# Altium footprint library Connector_JST.PcbLib: 558 footprints (part 15 of 35)
Each footprint in its own frame and in the unit in brackets; x right, y up, seen from the top. Pads: shape width x height; smd on the part's side, far side on the other; paste and mask are expansions set on the pad; w line width, h text height; cw(c..) or ccw(c..) is an arc to the next point about the centre after c.
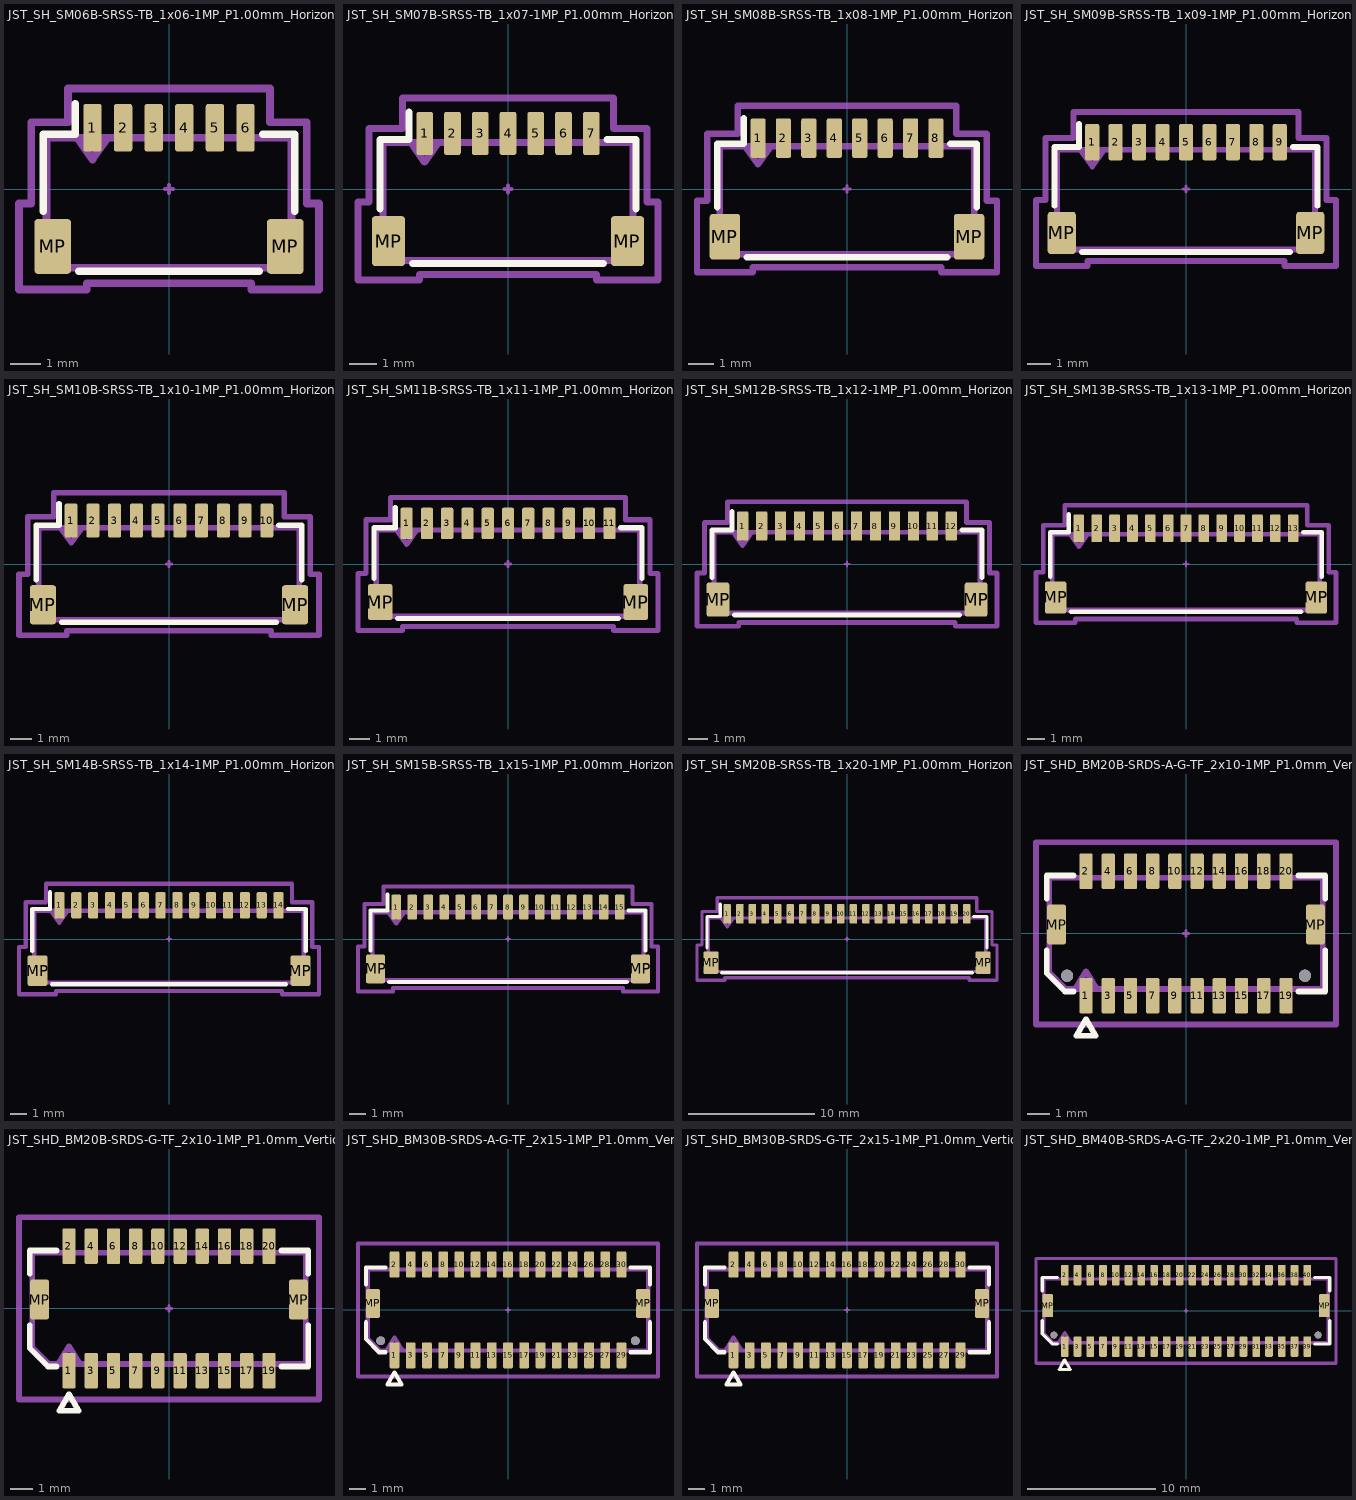
[diagram p14: the footprints below, top view; thin cyan lines are the x and y axes]

## JST_SH_SM06B-SRSS-TB_1x06-1MP_P1.00mm_Horizontal [mm] "JST_SH_SM06B-SRSS-TB_1x06-1MP_P1.00mm_Horizontal"
pads (8):
  rrect25% 0.6x1.55 smd: 1(-2.5,2) 2(-1.5,2) 3(-0.5,2) 4(0.5,2) 5(1.5,2) 6(2.5,2)
  rrect21% 1.2x1.8 smd: MP(-3.8,-1.875) MP(3.8,-1.875)
F.SilkS:
  lines w0.254: -4.11,-0.715 -4.11,1.785 -3.06,1.785 -3.06,2.775 ; -2.94,-2.685 2.94,-2.685 ; 3.06,1.785 4.11,1.785 4.11,-0.715
Top Component Center:
  lines w0.127: -0.127,0 0.127,0 ; 0,-0.127 0,0.127
Top Assembly:
  lines w0.254: -3,1.675 -2.5,0.968 -2,1.675 ; -4,-2.575 -4,1.675 4,1.675 4,-2.575 -4,-2.575
Top Courtyard:
  lines w0.254: -4.9,-3.28 -4.9,-0.47 -4.5,-0.47 -4.5,2.18 -3.3,2.18 -3.3,3.28 3.3,3.28 3.3,2.18 4.5,2.18 4.5,-0.47 4.9,-0.47 4.9,-3.28 2.69,-3.28 2.69,-3.08 -2.69,-3.08 -2.69,-3.28 -4.9,-3.28
Top Designator:
  text ".Designator" at -3.43,-0.344 h1.52

## JST_SH_SM07B-SRSS-TB_1x07-1MP_P1.00mm_Horizontal [mm] "JST_SH_SM07B-SRSS-TB_1x07-1MP_P1.00mm_Horizontal"
pads (9):
  rrect25% 0.6x1.55 smd: 1(-3,2) 2(-2,2) 3(-1,2) 4(0,2) 5(1,2) 6(2,2) 7(3,2)
  rrect21% 1.2x1.8 smd: MP(-4.3,-1.875) MP(4.3,-1.875)
F.SilkS:
  lines w0.254: -4.61,-0.715 -4.61,1.785 -3.56,1.785 -3.56,2.775 ; -3.44,-2.685 3.44,-2.685 ; 3.56,1.785 4.61,1.785 4.61,-0.715
Top Component Center:
  lines w0.127: -0.127,0 0.127,0 ; 0,-0.127 0,0.127
Top Assembly:
  lines w0.254: -3.5,1.675 -3,0.968 -2.5,1.675 ; -4.5,-2.575 4.5,-2.575 4.5,1.675 -4.5,1.675 -4.5,-2.575
Top Courtyard:
  lines w0.254: -5.4,-3.28 -3.19,-3.28 -3.19,-3.08 3.19,-3.08 3.19,-3.28 5.4,-3.28 5.4,-0.47 5,-0.47 5,2.18 3.8,2.18 3.8,3.28 -3.8,3.28 -3.8,2.18 -5,2.18 -5,-0.47 -5.4,-0.47 -5.4,-3.28
Top Designator:
  text ".Designator" at -3.43,-0.344 h1.52

## JST_SH_SM08B-SRSS-TB_1x08-1MP_P1.00mm_Horizontal [mm] "JST_SH_SM08B-SRSS-TB_1x08-1MP_P1.00mm_Horizontal"
pads (10):
  rrect25% 0.6x1.55 smd: 1(-3.5,2) 2(-2.5,2) 3(-1.5,2) 4(-0.5,2) 5(0.5,2) 6(1.5,2) 7(2.5,2) 8(3.5,2)
  rrect21% 1.2x1.8 smd: MP(-4.8,-1.875) MP(4.8,-1.875)
F.SilkS:
  lines w0.254: -5.11,-0.715 -5.11,1.785 -4.06,1.785 -4.06,2.775 ; -3.94,-2.685 3.94,-2.685 ; 4.06,1.785 5.11,1.785 5.11,-0.715
Top Component Center:
  lines w0.127: -0.127,0 0.127,0 ; 0,-0.127 0,0.127
Top Assembly:
  lines w0.254: -4,1.675 -3.5,0.968 -3,1.675 ; -5,-2.575 -5,1.675 5,1.675 5,-2.575 -5,-2.575
Top Courtyard:
  lines w0.254: -5.9,-3.28 -5.9,-0.47 -5.5,-0.47 -5.5,2.18 -4.3,2.18 -4.3,3.28 4.3,3.28 4.3,2.18 5.5,2.18 5.5,-0.47 5.9,-0.47 5.9,-3.28 3.7,-3.28 3.7,-3.08 -3.7,-3.08 -3.7,-3.28 -5.9,-3.28
Top Designator:
  text ".Designator" at -3.43,-0.344 h1.52

## JST_SH_SM09B-SRSS-TB_1x09-1MP_P1.00mm_Horizontal [mm] "JST_SH_SM09B-SRSS-TB_1x09-1MP_P1.00mm_Horizontal"
pads (11):
  rrect25% 0.6x1.55 smd: 1(-4,2) 2(-3,2) 3(-2,2) 4(-1,2) 5(0,2) 6(1,2) 7(2,2) 8(3,2) 9(4,2)
  rrect21% 1.2x1.8 smd: MP(-5.3,-1.875) MP(5.3,-1.875)
F.SilkS:
  lines w0.254: -5.61,-0.715 -5.61,1.785 -4.56,1.785 -4.56,2.775 ; -4.44,-2.685 4.44,-2.685 ; 4.56,1.785 5.61,1.785 5.61,-0.715
Top Component Center:
  lines w0.127: -0.127,0 0.127,0 ; 0,-0.127 0,0.127
Top Assembly:
  lines w0.254: -4.5,1.675 -4,0.968 -3.5,1.675 ; -5.5,-2.575 5.5,-2.575 5.5,1.675 -5.5,1.675 -5.5,-2.575
Top Courtyard:
  lines w0.254: -6.4,-3.28 -4.2,-3.28 -4.2,-3.08 4.2,-3.08 4.2,-3.28 6.4,-3.28 6.4,-0.47 6,-0.47 6,2.18 4.8,2.18 4.8,3.28 -4.8,3.28 -4.8,2.18 -6,2.18 -6,-0.47 -6.4,-0.47 -6.4,-3.28
Top Designator:
  text ".Designator" at -3.43,-0.344 h1.52

## JST_SH_SM10B-SRSS-TB_1x10-1MP_P1.00mm_Horizontal [mm] "JST_SH_SM10B-SRSS-TB_1x10-1MP_P1.00mm_Horizontal"
pads (12):
  rrect25% 0.6x1.55 smd: 1(-4.5,2) 2(-3.5,2) 3(-2.5,2) 4(-1.5,2) 5(-0.5,2) 6(0.5,2) 7(1.5,2) 8(2.5,2) 9(3.5,2) 10(4.5,2)
  rrect21% 1.2x1.8 smd: MP(-5.8,-1.875) MP(5.8,-1.875)
F.SilkS:
  lines w0.254: -6.11,-0.715 -6.11,1.785 -5.06,1.785 -5.06,2.775 ; -4.94,-2.685 4.94,-2.685 ; 5.06,1.785 6.11,1.785 6.11,-0.715
Top Component Center:
  lines w0.127: -0.127,0 0.127,0 ; 0,-0.127 0,0.127
Top Assembly:
  lines w0.254: -5,1.675 -4.5,0.968 -4,1.675 ; -6,-2.575 -6,1.675 6,1.675 6,-2.575 -6,-2.575
Top Courtyard:
  lines w0.254: -6.9,-3.28 -6.9,-0.47 -6.5,-0.47 -6.5,2.18 -5.3,2.18 -5.3,3.28 5.3,3.28 5.3,2.18 6.5,2.18 6.5,-0.47 6.9,-0.47 6.9,-3.28 4.7,-3.28 4.7,-3.08 -4.7,-3.08 -4.7,-3.28 -6.9,-3.28
Top Designator:
  text ".Designator" at -3.43,-0.344 h1.52

## JST_SH_SM11B-SRSS-TB_1x11-1MP_P1.00mm_Horizontal [mm] "JST_SH_SM11B-SRSS-TB_1x11-1MP_P1.00mm_Horizontal"
pads (13):
  rrect25% 0.6x1.55 smd: 1(-5,2) 2(-4,2) 3(-3,2) 4(-2,2) 5(-1,2) 6(0,2) 7(1,2) 8(2,2) 9(3,2) 10(4,2) 11(5,2)
  rrect21% 1.2x1.8 smd: MP(-6.3,-1.875) MP(6.3,-1.875)
F.SilkS:
  lines w0.254: -6.61,-0.715 -6.61,1.785 -5.56,1.785 -5.56,2.775 ; -5.44,-2.685 5.44,-2.685 ; 5.56,1.785 6.61,1.785 6.61,-0.715
Top Component Center:
  lines w0.127: -0.127,0 0.127,0 ; 0,-0.127 0,0.127
Top Assembly:
  lines w0.254: -5.5,1.675 -5,0.968 -4.5,1.675 ; -6.5,-2.575 6.5,-2.575 6.5,1.675 -6.5,1.675 -6.5,-2.575
Top Courtyard:
  lines w0.254: -7.4,-3.28 -5.2,-3.28 -5.2,-3.08 5.2,-3.08 5.2,-3.28 7.4,-3.28 7.4,-0.47 7,-0.47 7,2.18 5.8,2.18 5.8,3.28 -5.8,3.28 -5.8,2.18 -7,2.18 -7,-0.47 -7.4,-0.47 -7.4,-3.28
Top Designator:
  text ".Designator" at -3.43,-0.344 h1.52

## JST_SH_SM12B-SRSS-TB_1x12-1MP_P1.00mm_Horizontal [mm] "JST_SH_SM12B-SRSS-TB_1x12-1MP_P1.00mm_Horizontal"
pads (14):
  rrect25% 0.6x1.55 smd: 1(-5.5,2) 2(-4.5,2) 3(-3.5,2) 4(-2.5,2) 5(-1.5,2) 6(-0.5,2) 7(0.5,2) 8(1.5,2) 9(2.5,2) 10(3.5,2) 11(4.5,2) 12(5.5,2)
  rrect21% 1.2x1.8 smd: MP(-6.8,-1.875) MP(6.8,-1.875)
F.SilkS:
  lines w0.254: -7.11,-0.715 -7.11,1.785 -6.06,1.785 -6.06,2.775 ; -5.94,-2.685 5.94,-2.685 ; 6.06,1.785 7.11,1.785 7.11,-0.715
Top Component Center:
  lines w0.127: -0.127,0 0.127,0 ; 0,-0.127 0,0.127
Top Assembly:
  lines w0.254: -6,1.675 -5.5,0.968 -5,1.675 ; -7,-2.575 7,-2.575 7,1.675 -7,1.675 -7,-2.575
Top Courtyard:
  lines w0.254: -7.9,-3.28 -5.7,-3.28 -5.7,-3.08 5.7,-3.08 5.7,-3.28 7.9,-3.28 7.9,-0.47 7.5,-0.47 7.5,2.18 6.3,2.18 6.3,3.28 -6.3,3.28 -6.3,2.18 -7.5,2.18 -7.5,-0.47 -7.9,-0.47 -7.9,-3.28
Top Designator:
  text ".Designator" at -3.43,-0.344 h1.52

## JST_SH_SM13B-SRSS-TB_1x13-1MP_P1.00mm_Horizontal [mm] "JST_SH_SM13B-SRSS-TB_1x13-1MP_P1.00mm_Horizontal"
pads (15):
  rrect25% 0.6x1.55 smd: 1(-6,2) 2(-5,2) 3(-4,2) 4(-3,2) 5(-2,2) 6(-1,2) 7(0,2) 8(1,2) 9(2,2) 10(3,2) 11(4,2) 12(5,2) 13(6,2)
  rrect21% 1.2x1.8 smd: MP(-7.3,-1.875) MP(7.3,-1.875)
F.SilkS:
  lines w0.254: -7.61,-0.715 -7.61,1.785 -6.56,1.785 -6.56,2.775 ; -6.44,-2.685 6.44,-2.685 ; 6.56,1.785 7.61,1.785 7.61,-0.715
Top Component Center:
  lines w0.127: -0.127,0 0.127,0 ; 0,-0.127 0,0.127
Top Assembly:
  lines w0.254: -6.5,1.675 -6,0.968 -5.5,1.675 ; -7.5,-2.575 7.5,-2.575 7.5,1.675 -7.5,1.675 -7.5,-2.575
Top Courtyard:
  lines w0.254: -8.4,-3.28 -6.2,-3.28 -6.2,-3.08 6.2,-3.08 6.2,-3.28 8.4,-3.28 8.4,-0.47 8,-0.47 8,2.18 6.8,2.18 6.8,3.28 -6.8,3.28 -6.8,2.18 -8,2.18 -8,-0.47 -8.4,-0.47 -8.4,-3.28
Top Designator:
  text ".Designator" at -3.43,-0.344 h1.52

## JST_SH_SM14B-SRSS-TB_1x14-1MP_P1.00mm_Horizontal [mm] "JST_SH_SM14B-SRSS-TB_1x14-1MP_P1.00mm_Horizontal"
pads (16):
  rrect25% 0.6x1.55 smd: 1(-6.5,2) 2(-5.5,2) 3(-4.5,2) 4(-3.5,2) 5(-2.5,2) 6(-1.5,2) 7(-0.5,2) 8(0.5,2) 9(1.5,2) 10(2.5,2) 11(3.5,2) 12(4.5,2) 13(5.5,2) 14(6.5,2)
  rrect21% 1.2x1.8 smd: MP(-7.8,-1.875) MP(7.8,-1.875)
F.SilkS:
  lines w0.254: -8.11,-0.715 -8.11,1.785 -7.06,1.785 -7.06,2.775 ; -6.94,-2.685 6.94,-2.685 ; 7.06,1.785 8.11,1.785 8.11,-0.715
Top Component Center:
  lines w0.127: -0.127,0 0.127,0 ; 0,-0.127 0,0.127
Top Assembly:
  lines w0.254: -7,1.675 -6.5,0.968 -6,1.675 ; -8,-2.575 -8,1.675 8,1.675 8,-2.575 -8,-2.575
Top Courtyard:
  lines w0.254: -8.9,-3.28 -8.9,-0.47 -8.5,-0.47 -8.5,2.18 -7.3,2.18 -7.3,3.28 7.3,3.28 7.3,2.18 8.5,2.18 8.5,-0.47 8.9,-0.47 8.9,-3.28 6.7,-3.28 6.7,-3.08 -6.7,-3.08 -6.7,-3.28 -8.9,-3.28
Top Designator:
  text ".Designator" at -3.43,-0.344 h1.52

## JST_SH_SM15B-SRSS-TB_1x15-1MP_P1.00mm_Horizontal [mm] "JST_SH_SM15B-SRSS-TB_1x15-1MP_P1.00mm_Horizontal"
pads (17):
  rrect25% 0.6x1.55 smd: 1(-7,2) 2(-6,2) 3(-5,2) 4(-4,2) 5(-3,2) 6(-2,2) 7(-1,2) 8(0,2) 9(1,2) 10(2,2) 11(3,2) 12(4,2) 13(5,2) 14(6,2) 15(7,2)
  rrect21% 1.2x1.8 smd: MP(-8.3,-1.875) MP(8.3,-1.875)
F.SilkS:
  lines w0.254: -8.61,-0.715 -8.61,1.785 -7.56,1.785 -7.56,2.775 ; -7.44,-2.685 7.44,-2.685 ; 7.56,1.785 8.61,1.785 8.61,-0.715
Top Component Center:
  lines w0.127: -0.127,0 0.127,0 ; 0,-0.127 0,0.127
Top Assembly:
  lines w0.254: -7.5,1.675 -7,0.968 -6.5,1.675 ; -8.5,-2.575 -8.5,1.675 8.5,1.675 8.5,-2.575 -8.5,-2.575
Top Courtyard:
  lines w0.254: -9.4,-3.28 -9.4,-0.47 -9,-0.47 -9,2.18 -7.8,2.18 -7.8,3.28 7.8,3.28 7.8,2.18 9,2.18 9,-0.47 9.4,-0.47 9.4,-3.28 7.2,-3.28 7.2,-3.08 -7.2,-3.08 -7.2,-3.28 -9.4,-3.28
Top Designator:
  text ".Designator" at -3.43,-0.344 h1.52

## JST_SH_SM20B-SRSS-TB_1x20-1MP_P1.00mm_Horizontal [mm] "JST_SH_SM20B-SRSS-TB_1x20-1MP_P1.00mm_Horizontal"
pads (22):
  rrect25% 0.6x1.55 smd: 1(-9.5,2) 2(-8.5,2) 3(-7.5,2) 4(-6.5,2) 5(-5.5,2) 6(-4.5,2) 7(-3.5,2) 8(-2.5,2) 9(-1.5,2) 10(-0.5,2) 11(0.5,2) 12(1.5,2) 13(2.5,2) 14(3.5,2) 15(4.5,2) 16(5.5,2) 17(6.5,2) 18(7.5,2) 19(8.5,2) 20(9.5,2)
  rrect21% 1.2x1.8 smd: MP(-10.8,-1.875) MP(10.8,-1.875)
F.SilkS:
  lines w0.254: -11.11,-0.715 -11.11,1.785 -10.06,1.785 -10.06,2.775 ; -9.94,-2.685 9.94,-2.685 ; 10.06,1.785 11.11,1.785 11.11,-0.715
Top Component Center:
  lines w0.127: -0.127,0 0.127,0 ; 0,-0.127 0,0.127
Top Assembly:
  lines w0.254: -10,1.675 -9.5,0.968 -9,1.675 ; -11,-2.575 -11,1.675 11,1.675 11,-2.575 -11,-2.575
Top Courtyard:
  lines w0.254: -11.9,-3.28 -11.9,-0.47 -11.5,-0.47 -11.5,2.18 -10.3,2.18 -10.3,3.28 10.3,3.28 10.3,2.18 11.5,2.18 11.5,-0.47 11.9,-0.47 11.9,-3.28 9.7,-3.28 9.7,-3.08 -9.7,-3.08 -9.7,-3.28 -11.9,-3.28
Top Designator:
  text ".Designator" at -3.43,-0.344 h1.52

## JST_SHD_BM20B-SRDS-A-G-TF_2x10-1MP_P1.0mm_Vertical [mm] "JST_SHD_BM20B-SRDS-A-G-TF_2x10-1MP_P1.0mm_Vertical"
pads (24):
  rrect25% 0.6x1.6 smd: 1(-4.5,-2.8) 2(-4.5,2.8) 3(-3.5,-2.8) 4(-3.5,2.8) 5(-2.5,-2.8) 6(-2.5,2.8) 7(-1.5,-2.8) 8(-1.5,2.8) 9(-0.5,-2.8) 10(-0.5,2.8) 11(0.5,-2.8) 12(0.5,2.8) 13(1.5,-2.8) 14(1.5,2.8) 15(2.5,-2.8) 16(2.5,2.8) 17(3.5,-2.8) 18(3.5,2.8) 19(4.5,-2.8) 20(4.5,2.8)
  rrect25% 0.85x1.8 smd: MP(-5.825,0.4) MP(5.825,0.4)
  round 0.55 hole 0.55: Un1(-5.35,-1.9) Un2(5.35,-1.9)
F.SilkS:
  lines w0.254: -6.26,-0.76 -6.26,-1.796 -5.446,-2.61 -5.06,-2.61 ; -6.26,1.56 -6.26,2.61 -5.06,2.61 ; -4.506,-3.86 -4.933,-4.6 -4.067,-4.6 -4.494,-3.86 ; 5.06,-2.61 6.26,-2.61 6.26,-0.76 ; 5.06,2.61 6.26,2.61 6.26,1.56
Top Component Center:
  lines w0.127: -0.127,0 0.127,0 ; 0,-0.127 0,0.127
Top Assembly:
  lines w0.254: -5,-2.5 -4.5,-1.7 -4,-2.5 ; -6.15,-1.75 -5.4,-2.5 6.15,-2.5 6.15,2.5 -6.15,2.5 -6.15,-1.75
Top Courtyard:
  lines w0.254: -6.75,-4.1 6.75,-4.1 6.75,4.1 -6.75,4.1 -6.75,-4.1
Top Designator:
  text ".Designator" at -3.43,-0.344 h1.52

## JST_SHD_BM20B-SRDS-G-TF_2x10-1MP_P1.0mm_Vertical [mm] "JST_SHD_BM20B-SRDS-G-TF_2x10-1MP_P1.0mm_Vertical"
pads (22):
  rrect25% 0.6x1.6 smd: 1(-4.5,-2.8) 2(-4.5,2.8) 3(-3.5,-2.8) 4(-3.5,2.8) 5(-2.5,-2.8) 6(-2.5,2.8) 7(-1.5,-2.8) 8(-1.5,2.8) 9(-0.5,-2.8) 10(-0.5,2.8) 11(0.5,-2.8) 12(0.5,2.8) 13(1.5,-2.8) 14(1.5,2.8) 15(2.5,-2.8) 16(2.5,2.8) 17(3.5,-2.8) 18(3.5,2.8) 19(4.5,-2.8) 20(4.5,2.8)
  rrect25% 0.85x1.8 smd: MP(-5.825,0.4) MP(5.825,0.4)
F.SilkS:
  lines w0.254: -6.26,-0.76 -6.26,-1.796 -5.446,-2.61 -5.06,-2.61 ; -6.26,1.56 -6.26,2.61 -5.06,2.61 ; -4.506,-3.86 -4.933,-4.6 -4.067,-4.6 -4.494,-3.86 ; 5.06,-2.61 6.26,-2.61 6.26,-0.76 ; 5.06,2.61 6.26,2.61 6.26,1.56
Top Component Center:
  lines w0.127: -0.127,0 0.127,0 ; 0,-0.127 0,0.127
Top Assembly:
  lines w0.254: -5,-2.5 -4.5,-1.7 -4,-2.5 ; -6.15,-1.75 -6.15,2.5 6.15,2.5 6.15,-2.5 -5.4,-2.5 -6.15,-1.75
Top Courtyard:
  lines w0.254: -6.75,-4.1 -6.75,4.1 6.75,4.1 6.75,-4.1 -6.75,-4.1
Top Designator:
  text ".Designator" at -3.43,-0.344 h1.52

## JST_SHD_BM30B-SRDS-A-G-TF_2x15-1MP_P1.0mm_Vertical [mm] "JST_SHD_BM30B-SRDS-A-G-TF_2x15-1MP_P1.0mm_Vertical"
pads (34):
  rrect25% 0.6x1.6 smd: 1(-7,-2.8) 2(-7,2.8) 3(-6,-2.8) 4(-6,2.8) 5(-5,-2.8) 6(-5,2.8) 7(-4,-2.8) 8(-4,2.8) 9(-3,-2.8) 10(-3,2.8) 11(-2,-2.8) 12(-2,2.8) 13(-1,-2.8) 14(-1,2.8) 15(0,-2.8) 16(0,2.8) 17(1,-2.8) 18(1,2.8) 19(2,-2.8) 20(2,2.8) 21(3,-2.8) 22(3,2.8) 23(4,-2.8) 24(4,2.8) 25(5,-2.8) 26(5,2.8) 27(6,-2.8) 28(6,2.8) 29(7,-2.8) 30(7,2.8)
  rrect25% 0.85x1.8 smd: MP(-8.325,0.4) MP(8.325,0.4)
  round 0.55 hole 0.55: Un1(-7.85,-1.9) Un2(7.85,-1.9)
F.SilkS:
  lines w0.254: -8.76,-0.76 -8.76,-1.796 -7.946,-2.61 -7.56,-2.61 ; -8.76,1.56 -8.76,2.61 -7.56,2.61 ; -7.006,-3.86 -7.433,-4.6 -6.567,-4.6 -6.994,-3.86 ; 7.56,-2.61 8.76,-2.61 8.76,-0.76 ; 7.56,2.61 8.76,2.61 8.76,1.56
Top Component Center:
  lines w0.127: -0.127,0 0.127,0 ; 0,-0.127 0,0.127
Top Assembly:
  lines w0.254: -7.5,-2.5 -7,-1.7 -6.5,-2.5 ; -8.65,-1.75 -8.65,2.5 8.65,2.5 8.65,-2.5 -7.9,-2.5 -8.65,-1.75
Top Courtyard:
  lines w0.254: -9.25,-4.1 -9.25,4.1 9.25,4.1 9.25,-4.1 -9.25,-4.1
Top Designator:
  text ".Designator" at -3.43,-0.344 h1.52

## JST_SHD_BM30B-SRDS-G-TF_2x15-1MP_P1.0mm_Vertical [mm] "JST_SHD_BM30B-SRDS-G-TF_2x15-1MP_P1.0mm_Vertical"
pads (32):
  rrect25% 0.6x1.6 smd: 1(-7,-2.8) 2(-7,2.8) 3(-6,-2.8) 4(-6,2.8) 5(-5,-2.8) 6(-5,2.8) 7(-4,-2.8) 8(-4,2.8) 9(-3,-2.8) 10(-3,2.8) 11(-2,-2.8) 12(-2,2.8) 13(-1,-2.8) 14(-1,2.8) 15(0,-2.8) 16(0,2.8) 17(1,-2.8) 18(1,2.8) 19(2,-2.8) 20(2,2.8) 21(3,-2.8) 22(3,2.8) 23(4,-2.8) 24(4,2.8) 25(5,-2.8) 26(5,2.8) 27(6,-2.8) 28(6,2.8) 29(7,-2.8) 30(7,2.8)
  rrect25% 0.85x1.8 smd: MP(-8.325,0.4) MP(8.325,0.4)
F.SilkS:
  lines w0.254: -8.76,-0.76 -8.76,-1.796 -7.946,-2.61 -7.56,-2.61 ; -8.76,1.56 -8.76,2.61 -7.56,2.61 ; -7.006,-3.86 -7.433,-4.6 -6.567,-4.6 -6.994,-3.86 ; 7.56,-2.61 8.76,-2.61 8.76,-0.76 ; 7.56,2.61 8.76,2.61 8.76,1.56
Top Component Center:
  lines w0.127: -0.127,0 0.127,0 ; 0,-0.127 0,0.127
Top Assembly:
  lines w0.254: -7.5,-2.5 -7,-1.7 -6.5,-2.5 ; -8.65,-1.75 -8.65,2.5 8.65,2.5 8.65,-2.5 -7.9,-2.5 -8.65,-1.75
Top Courtyard:
  lines w0.254: -9.25,-4.1 -9.25,4.1 9.25,4.1 9.25,-4.1 -9.25,-4.1
Top Designator:
  text ".Designator" at -3.43,-0.344 h1.52

## JST_SHD_BM40B-SRDS-A-G-TF_2x20-1MP_P1.0mm_Vertical [mm] "JST_SHD_BM40B-SRDS-A-G-TF_2x20-1MP_P1.0mm_Vertical"
pads (44):
  rrect25% 0.6x1.6 smd: 1(-9.5,-2.8) 2(-9.5,2.8) 3(-8.5,-2.8) 4(-8.5,2.8) 5(-7.5,-2.8) 6(-7.5,2.8) 7(-6.5,-2.8) 8(-6.5,2.8) 9(-5.5,-2.8) 10(-5.5,2.8) 11(-4.5,-2.8) 12(-4.5,2.8) 13(-3.5,-2.8) 14(-3.5,2.8) 15(-2.5,-2.8) 16(-2.5,2.8) 17(-1.5,-2.8) 18(-1.5,2.8) 19(-0.5,-2.8) 20(-0.5,2.8) 21(0.5,-2.8) 22(0.5,2.8) 23(1.5,-2.8) 24(1.5,2.8) 25(2.5,-2.8) 26(2.5,2.8) 27(3.5,-2.8) 28(3.5,2.8) 29(4.5,-2.8) 30(4.5,2.8) 31(5.5,-2.8) 32(5.5,2.8) 33(6.5,-2.8) 34(6.5,2.8) 35(7.5,-2.8) 36(7.5,2.8) 37(8.5,-2.8) 38(8.5,2.8) 39(9.5,-2.8) 40(9.5,2.8)
  rrect25% 0.85x1.8 smd: MP(-10.825,0.4) MP(10.825,0.4)
  round 0.55 hole 0.55: Un1(-10.35,-1.9) Un2(10.35,-1.9)
F.SilkS:
  lines w0.254: -11.26,-0.76 -11.26,-1.796 -10.446,-2.61 -10.06,-2.61 ; -11.26,1.56 -11.26,2.61 -10.06,2.61 ; -9.506,-3.86 -9.933,-4.6 -9.067,-4.6 -9.494,-3.86 ; 10.06,-2.61 11.26,-2.61 11.26,-0.76 ; 10.06,2.61 11.26,2.61 11.26,1.56
Top Component Center:
  lines w0.127: -0.127,0 0.127,0 ; 0,-0.127 0,0.127
Top Assembly:
  lines w0.254: -10,-2.5 -9.5,-1.7 -9,-2.5 ; -11.15,-1.75 -11.15,2.5 11.15,2.5 11.15,-2.5 -10.4,-2.5 -11.15,-1.75
Top Courtyard:
  lines w0.254: -11.75,-4.1 -11.75,4.1 11.75,4.1 11.75,-4.1 -11.75,-4.1
Top Designator:
  text ".Designator" at -3.43,-0.344 h1.52